# Altium schematic symbol library LCD_Dev_PCB_Project_1.SCHLIB: 24 symbols
Pins are listed as number, name and electrical type; pins without a type are passive.

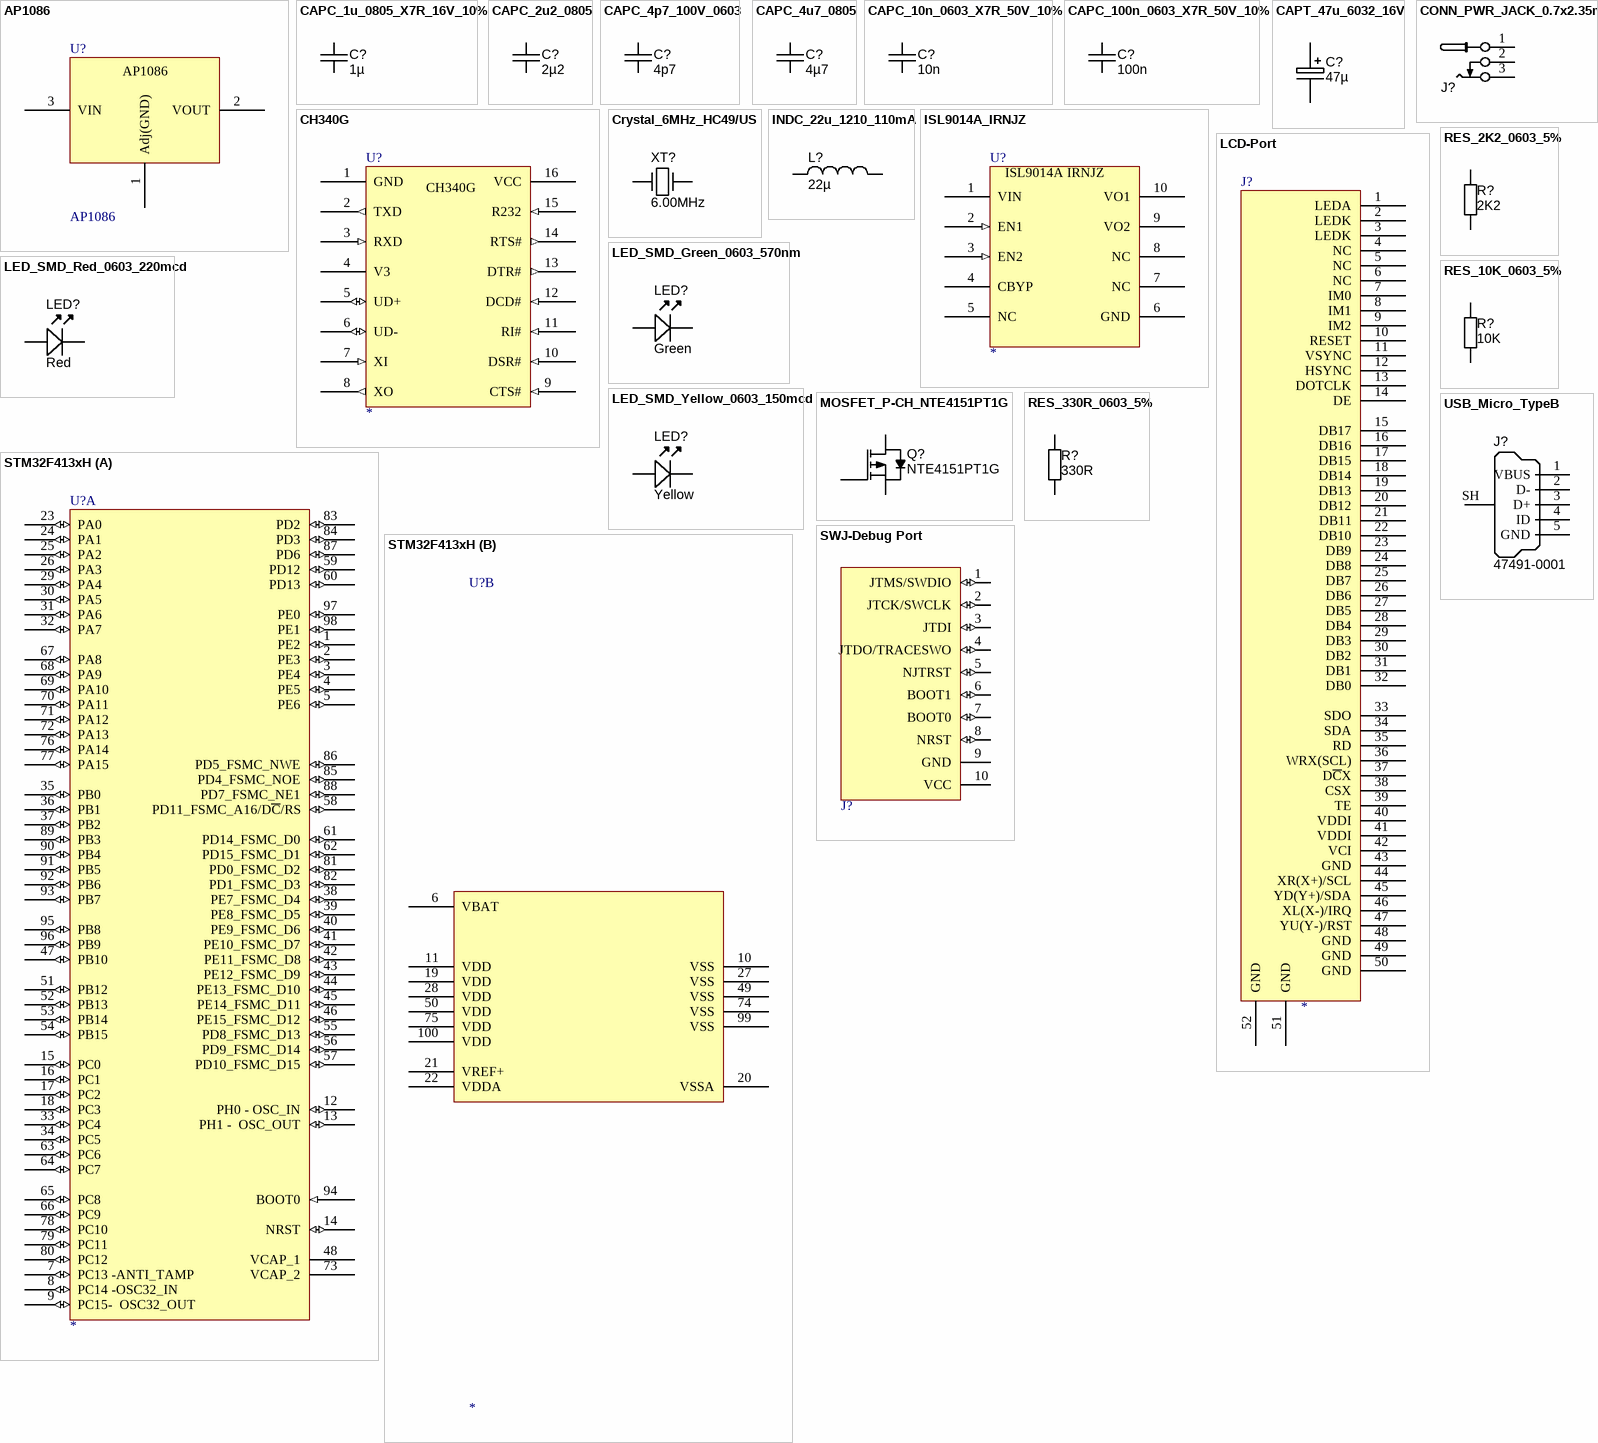
[diagram p0: symbols AP1086 to USB_Micro_TypeB]

## AP1086
designator U?
footprint TO263-3L (D-PAK/TO-263-3; 3 Leads (1 Cropped); Body 14.7 (inc. leads) x 10.2 mm (LxW max))
pins: 1 Adj(GND) (power) "Adjustable (Ground only for fixed mode)", 2 VOUT (power) "The output of the regulator. A minimum of 10uF capacitor must be connected  from this pin to ground to insure stability", 3 VIN (power) "The input pin of regulator.  Must  always be 1.4V higher than VOUT in order for the device to regulate properly."

## CAPC_1u_0805_X7R_16V_10%
designator C?, comment value 1µ  (hidden comment: approved sub OK)
Capacitor SMD Cer 1uF 10% 16V X7R 0805; Manufacturer 1: Yageo; Manufacturer Part Number 1: CC0805KKX7R7BB105; Ratings: 16V; X7R; Material: ceramic; SCDType: spec; Package / Case: 0805 (2012 metric); Tolerance: ±10%; Supplier 1: Digi-Key; Supplier Part Number 1: 311-1365-6-ND; ComponentLink1URL: http://www.yageo.com/documents/recent/UPY-GPHC_X7R_6.3V-to-50V_8.pdf; ComponentLink1Description: http://www.yageo.com/documents/recent/UPY-GPHC_X7R_6.3V-to-50V_8.pdf; RoHS 1: RoHS Compliant; Temperature Coefficient: X7R; Supplier 2: Digi-Key; Supplier Part Number 2: 399-1284-6-ND; Manufacturer 2: Kemet; Manufacturer Part Number 2: C0805C105K4RACTU; RoHS 2: RoHS Compliant; ComponentLink2URL: http://www.kemet.com/datasheets&C0805C105K4RACTU; ComponentLink2Description: http://www.kemet.com/datasheets&C0805C105K4RACTU; Supplier 3: Digi-Key; Supplier Part Number 3: 1276-1026-6-ND; Manufacturer 3: Samsung Electro-Mechanics America, Inc; Manufacturer Part Number 3: CL21B105KOFNNNE; RoHS 3: RoHS Compliant; ComponentLink3URL: http://www.samsungsem.com/servlet/FileDownload?type=spec&file=CL21B105KOFNNNE.pdf; ComponentLink3Description: http://www.samsungsem.com/servlet/FileDownload?type=spec&file=CL21B105KOFNNNE.pdf; Supplier 4: Digi-Key; Supplier Part Number 4: 445-1358-6-ND; Manufacturer 4: TDK Corporation; Manufacturer Part Number 4: C2012X7R1C105K125AA; RoHS 4: RoHS Compliant; ComponentLink4URL: http://product.tdk.com/capacitor/mlcc/en/documents/mlcc_commercial_general_en.pdf; ComponentLink4Description: http://product.tdk.com/capacitor/mlcc/en/documents/mlcc_commercial_general_en.pdf
footprint CAPC2012X135N (Chip Capacitor, Body 2.0x1.2mm, 0805, IPC Medium Density)
pins: 1, 2

## CAPC_2u2_0805
designator C?, comment value 2µ2  (hidden comment: approved sub OK)
Capacitor SMD Cer 2.2uF 10% 16V X7R 0805; Manufacturer 1: Kemet; Manufacturer Part Number 1: C0805C225K4RACTU; Ratings: 16V; X7R; SCDType: undef; Package / Case: 0805 (2012 metric); Tolerance: ±10%; Supplier 1: Digi-Key; Supplier Part Number 1: 399-3523-1-ND
footprint CAPC2012X135N (Chip Capacitor, Body 2.0x1.2mm, 0805, IPC Medium Density)
pins: 1, 2

## CAPC_4p7_100V_0603
designator C?, comment value 4p7  (hidden comment: approved sub OK)
Capacitor SMD Cer 4.7pF ±0.25pF 100V NP0 0603; Manufacturer 1: AVX Corporation; Manufacturer Part Number 1: 06031A4R7CAT2A; Ratings: 100V; NP0; SCDType: source*; Tolerance: ±0.25pF; Operating Temperature: -55°C ~ 125°C; Package / Case: 0603 (1608 metric); Supplier 1: Digi-Key; Supplier Part Number 1: 478-4992-1-ND
footprint CAPC1608X90N (Chip Capacitor, Body 1.6x0.8mm, 0603, IPC Medium Density)
pins: 1, 2

## CAPC_4u7_0805
designator C?, comment value 4µ7  (hidden comment: approved sub OK)
Capacitor SMD Cer 4.7uF 10% 16V X5R 0805; Manufacturer 1: Taiyo Yuden; Manufacturer Part Number 1: EMK212BJ475KG-T; Ratings: 16V; X5R; Material: ceramic; SCDType: spec; Package / Case: 0805 (2012 Metric); Tolerance: ±10%; Supplier 1: Digi-Key; Supplier Part Number 1: 587-1294-1-ND; Operating Temperature: -55°C ~ 85°C; Size / Dimension: 0.079" L x 0.049" W (2.00mm x 1.25mm); Thickness (Max): 0.053" (1.35mm); ComponentLink1URL: http://www.yuden.co.jp/productdata/catalog/en/mlcc01_e.pdf; ComponentLink1Description: http://www.yuden.co.jp/productdata/catalog/en/mlcc01_e.pdf; Supplier 2: Digi-Key; Supplier Part Number 2: 1276-1065-1-ND; Manufacturer 2: Samsung Electro-Mechanics America, Inc; Manufacturer Part Number 2: CL21A475KOFNNNE; RoHS 2: RoHS Compliant; ComponentLink2URL: http://www.samsungsem.com/servlet/FileDownload?type=spec&file=CL21A475KOFNNNE.pdf; ComponentLink2Description: http://www.samsungsem.com/servlet/FileDownload?type=spec&file=CL21A475KOFNNNE.pdf; Supplier 3: Digi-Key; Supplier Part Number 3: 399-8101-1-ND; Manufacturer 3: Kemet; Manufacturer Part Number 3: C0805C475K4PACTU; RoHS 3: RoHS Compliant; ComponentLink3URL: http://capacitoredge.kemet.com/capedge2/DataSheet?pn=C0805C475K4PACTU; ComponentLink3Description: http://capacitoredge.kemet.com/capedge2/DataSheet?pn=C0805C475K4PACTU; Supplier 4: Digi-Key; Supplier Part Number 4: 490-7215-1-ND; Manufacturer 4: Murata Electronics North America; Manufacturer Part Number 4: GRM21BR61C475MA88L; RoHS 4: RoHS Compliant; ComponentLink4URL: http://psearch.murata.com/capacitor/product/GRM21BR61C475MA88#.pdf; ComponentLink4Description: http://psearch.murata.com/capacitor/product/GRM21BR61C475MA88#.pdf; Supplier 5: Digi-Key; Supplier Part Number 5: 445-7640-1-ND; Manufacturer 5: TDK Corporation; Manufacturer Part Number 5: C2012X5R1C475K125AC; RoHS 5: RoHS Compliant; ComponentLink5URL: http://product.tdk.com/capacitor/mlcc/en/documents/mlcc_commercial_general_en.pdf; ComponentLink5Description: http://product.tdk.com/capacitor/mlcc/en/documents/mlcc_commercial_general_en.pdf; RoHS 1: RoHS Compliant
footprint CAPC2012X135N (Chip Capacitor, Body 2.0x1.2mm, 0805, IPC Medium Density)
pins: 1, 2

## CAPC_10n_0603_X7R_50V_10%
designator C?, comment value 10n  (hidden comment: approved sub OK)
Capacitor SMD Cer 10nF 10% 50V X7R 0603; Manufacturer 1: TDK Corporation; Manufacturer Part Number 1: C1608X7R1H103K; Ratings: 50V; X7R; SCDType: spec; Material: ceramic; Tolerance: ±10%; Package / Case: 0603 (1608 metric); Manufacturer 2: AVX Corporation; Manufacturer Part Number 2: 06035C103KAT2A; Supplier 1: Digi-Key; Supplier Part Number 1: 445-1311-1-ND; ComponentLink1URL: http://product.tdk.com/capacitor/mlcc/en/documents/mlcc_commercial_general_en.pdf; ComponentLink1Description: http://product.tdk.com/capacitor/mlcc/en/documents/mlcc_commercial_general_en.pdf; Supplier 2: Digi-Key; Supplier Part Number 2: 478-1227-1-ND; ComponentLink2URL: http://www.avx.com/docs/Catalogs/cx7r.pdf; ComponentLink2Description: http://www.avx.com/docs/Catalogs/cx7r.pdf
footprint CAPC1608X90N (Chip Capacitor, Body 1.6x0.8mm, 0603, IPC Medium Density)
pins: 1, 2

## CAPC_100n_0603_X7R_50V_10%
designator C?, comment value 100n  (hidden comment: approved sub OK)
Capacitor SMD Cer 100nF 10% 50V X7R 0603; Manufacturer 1: AVX Corporation; Manufacturer Part Number 1: 06035C104KAT2A; Ratings: 50V; X7R; SCDType: spec; Material: ceramic; Tolerance: ±10%; Package / Case: 0603 (1608 Metric); Supplier 1: Digi-Key; Supplier Part Number 1: 478-5052-1-ND; ComponentLink1URL: http://www.avx.com/docs/Catalogs/cx7r.pdf; ComponentLink1Description: http://www.avx.com/docs/Catalogs/cx7r.pdf; Supplier 2: Digi-Key; Supplier Part Number 2: 445-1314-1-ND; Manufacturer 2: TDK Corporation; Manufacturer Part Number 2: C1608X7R1H104K; ComponentLink2URL: http://product.tdk.com/capacitor/mlcc/en/documents/mlcc_commercial_general_en.pdf; ComponentLink2Description: http://product.tdk.com/capacitor/mlcc/en/documents/mlcc_commercial_general_en.pdf
footprint CAPC1608X90N (Chip Capacitor, Body 1.6x0.8mm, 0603, IPC Medium Density)
pins: 1, 2

## CAPT_47u_6032_16V
designator C?, comment 47µ
Capacitor SMD Tantalum 47uF 10% 16V 6032-28; Manufacturer 1: Vishay/Sprague; Manufacturer Part Number 1: TR3C476K016C0300; SCDType: undef; Package / Case: EIA 535BAAC size C; Ratings: 16V; Tolerance: ±10%; Material: Tantalum; Supplier 1: Digi-Key; Supplier Part Number 1: 718-1332-1-ND; Value: 47µ
footprint CAPMP6032X280N (Capacitor, polarized, Molded Body, EIA 535BAAC size C; 6.00mm L X 3.20mm W X 2.80mm H)
pins: 1, 2

## CH340G
designator U?
USB bus conversion chip
footprint SOP16
pins: 1 GND (power) "Public ground, ground connection for USB", 2 TXD (out) "Transmit asynchronous data output", 3 RXD (in) "Receive asynchronous data input, built-in configurable  pull-up and pull-down resistor", 4 V3 (power) "Connect to VCC to input external power when 3.3V power  supply, connect to 0.1uF decoupling capacitor when 5V  power supply", 5 UD+ (io) "USB signal", 6 UD- (io) "USB signal", 7 XI (in) "Input of crystal oscillator, connect to crystal  and capacitor", 8 XO (out) "Output of crystal oscillator, connect to crystal and capacitor", 9 CTS# (in) "MODEM liaison input signal, clear to send, active  low(high)", 10 DSR# (in) "MODEM liaison input signal, data set ready, active  low(high)", 11 RI# (in) "MODEM liaison input signal, ring indicator , active  low(high)", 12 DCD# (in) "MODEM liaison input signal, data carrier detect, active  low(high)", 13 DTR# (out) "MODEM liaison output signal, data terminal ready, active  low(high)", 14 RTS# (out) "MODEM liaison output signal, request to send, active  low(high)", 15 R232 (in) "Assistant RS232 enable, active high,  built-in pull-down resistor", 16 VCC (power) "Positive power input port, requires an external 0.1uF power  decoupling capacitor"

## CONN_PWR_JACK_0.7x2.35mm
designator J?  (value not drawn)
Connector Power THT 0.7mm ID x 2.35mm OD; Manufacturer 1: Kobiconn; Manufacturer Part Number 1: 163-4307-E; Value: 0.7mm ID, 2.35mm OD; SCDType: undef; Category: Connectors; Mounting Type: Through Hole; Package / Case: PCB mount; HELPURL: http://www.mouser.com/ProductDetail/Kobiconn/163-4307-E/?qs=FrCfMICDGNKiKC02lNlE3g%3D%3D
footprint CONN_PWR_JACK_0.7x2.35mm (Power Connector, 0.7mm ID, 2.35mm OD)
pins: 1 POS, 2 NC, 3 NEG

## Crystal_6MHz_HC49/US
designator XT?, comment 6.00MHz
Resonator Ceramic 6.00 MHz 30ppm; Manufacturer 1: CTS-Frequency Controls; Manufacturer Part Number 1: ATS060BSM-1; Frequency: 6MHz; Frequency Stability: ±50ppm; Load Capacitance: 18pF; Operating Mode: Fundamental; Parameter Name: 0.169" (4.30mm); SCDType: spec; Package / Case: HC49/US-SM; Ratings: 6.00 MHz; Supplier 1: Digi-Key; Supplier Part Number 1: CTX882CT-ND; Type: MHz Crystal; Frequency Tolerance: ±30ppm; Operating Temperature: -20°C ~ 70°C; Mounting Type: Surface Mount; Size / Dimension: 0.437" L x 0.190" W (11.10mm x 4.83mm); ComponentLink1URL: http://www.ctscorp.com/components/Datasheets/008-0309-0.pdf; ComponentLink1Description: http://www.ctscorp.com/components/Datasheets/008-0309-0.pdf
footprint CRYSTAL_HC49-US-SM (SMD Crystal HC49/US-SM package)
pins: 1 IN, 2 OUT

## INDC_22u_1210_110mA
designator L?, comment value 22µ  (hidden comment: SMD-322522)
Inductor 22uH 110mA 1210 SMD chip; Manufacturer 1: 3L; Manufacturer Part Number 1: SMD-322522-220K; Ratings: 110 mAdc; Tolerance: ±10%; Type: Ferrite Core; DC Resistance (DCR): 3.7 Ohm; Q @ Freq: 30 @ 2.52MHz; Frequency - Self Resonant: 20MHz; Frequency - Test: 2.52MHz; SCDType: source; Package / Case: 1210 (3225 Metric); Operating Temperature: -20°C ~ 80°C; Supplier 1: APlus Products; Supplier Part Number 1: SMD-322522-220K
footprint INDM3225X240N (Molded Inductor, 2-Leads, Body 3.2x2.5mm, IPC Medium Density)
pins: 1, 2

## ISL9014A_IRNJZ
designator U?
ISL9014A IRNJZ, Dual LDO, 3.3V and 2.8V, 300mA on both outputs
footprint 10LD3X3DFN (10 PIN DFPNL (DFN) Body 3x3mm, Pitch 0.50mm, IPC Medium Density)
pins: 1 VIN (power) "2.3-6.5V", 2 EN1 (in) "LDO-1 Enable.", 3 EN2 (in) "LDO-2 Enable.", 4 CBYP (power) "Reference Bypass Capacitor Pin", 5 NC "No Connection", 6 GND (power) "Connect to system ground. Connect to PCB Ground plane.", 7 NC "No Connection", 8 NC "No Connection", 9 VO2 (power) "LDO-2 Output: 2.8V 300mA", 10 VO1 (power) "LDO-1 Output: 3.3V 300mA"
text: ISL9014A IRNJZ

## LCD-Port
designator J?
3.5”TFT LCD Display Port (i80/6800/FSMC etc)
footprint ER-CON50HT-1 (50 pins 0.5mm pitch SMD horizontal type FPC ZIF)
pins: 1 LEDA (power) "Anode for LED backlighting", 2 LEDK (power) "Cathode for LED backlighting", 3 LEDK (power) "Cathode for LED backlighting", 4 NC "NO Connect", 5 NC "NO Connect", 6 NC "NO Connect", 7 IM0 "Select Interface Mode", 8 IM1 "Select Interface Mode", 9 IM2 "Select Interface Mode", 10 RESET "Reset Pin. Initialize the chip with a low input.", 11 VSYNC "Frame Synchronizing Signal For RGB Interface. Fix to DGND level when not in use.", 12 HSYNC "Line Synchronizing Signal For RGB Interface. Fix to DGND level when not in use.", 13 DOTCLK "Dot Clock Signal For RGB Interface. Fix to IOVCC level when not in use.", 14 DE "Data Enable Signal For RGB Interface. Fix to DGND level when not in use.", 15 DB17 "DATA BUS. Fix to DGND level when not in use.", 16 DB16 "DATA BUS. Fix to DGND level when not in use.", 17 DB15 "DATA BUS. Fix to DGND level when not in use.", 18 DB14 "DATA BUS. Fix to DGND level when not in use.", 19 DB13 "DATA BUS. Fix to DGND level when not in use.", 20 DB12 "DATA BUS. Fix to DGND level when not in use.", 21 DB11 "DATA BUS. Fix to DGND level when not in use.", 22 DB10 "DATA BUS. Fix to DGND level when not in use.", 23 DB9 "DATA BUS. Fix to DGND level when not in use.", 24 DB8 "DATA BUS. Fix to DGND level when not in use.", 25 DB7 "DATA BUS. Fix to DGND level when not in use.", 26 DB6 "DATA BUS. Fix to DGND level when not in use.", 27 DB5 "DATA BUS. Fix to DGND level when not in use.", 28 DB4 "DATA BUS. Fix to DGND level when not in use.", 29 DB3 "DATA BUS. Fix to DGND level when not in use.", 30 DB2 "DATA BUS. Fix to DGND level when not in use.", 31 DB1 "DATA BUS. Fix to DGND level when not in use.", 32 DB0 "DATA BUS. Fix to DGND level when not in use.", 33 SDO "Serial Output Signal. Leave the pin open when not in use.", 34 SDA "Serial interface : Serial input or serial data input/output bi-direction pin. Fix to DGND level when not in use.", 35 RD "Parallel interface:Read execution control pin. Fix to IOVCC when not in use.", 36 WRX(SCL) "Parallel interface:Write execution control pin ;  Serial interface :SCL pin as Serial Clock when operates in the serial interface  Fix to IOVCC when not in use.", 37 D~{C}X "Data/Command Selection pin. Fix to IOVCC when not in use.", 38 CSX "Chip Select Signal. Fix to IOVCC when not in use.", 39 TE "Tearing effect out pin synchronize MPU to frame writing. Leave the pin open when not in use.", 40 VDDI "Power Supply to the interface pins ,provide with 2.8V", 41 VDDI "Power Supply to the interface pins ,provide with 2.8V", 42 VCI "Logic power ,provide with 2.8V", 43 GND (power) "Ground", 44 XR(X+)/SCL "Resistive touch panel output/ Capacitive touch SCL signal,I2C interface.", 45 YD(Y+)/SDA "Resistive touch panel output/ Capacitive touch SDA signal, I2C interface", 46 XL(X-)/IRQ "Resistive touch panel output /Capacitive touch pen interrupt signal when low.", 47 YU(Y-)/RST "Resistive touch panel output/ Capacitive touch reset signal when low.", 48 GND (power) "Ground", 49 GND (power) "Ground", 50 GND (power) "Ground", 51 GND (power) "Housing locker GND", 52 GND (power) "Housing locker GND"

## LED_SMD_Green_0603_570nm
designator LED?, comment Green
LED 0603 SMD Green 570nm 50mcd 20mA; Manufacturer 1: Kingbright Company LLC; Manufacturer Part Number 1: APT1608CGCK; Material: AlGaInP; Ratings: 20mcd min; 50 mcd typ; 570 nm; Voltage - Forward (Vf) Typ: 2.1V; Viewing Angle: 120°; Lens Style/Size: Rectangle with Flat Top, 1.1mm x 0.8mm; Voltage - Forward (Vf) @ 10mA: 2.0V; SCDType: source; Wavelength - Peak: 574nm; Lens Type: Clear; Package / Case: 0603 (1608 metric); Color: Green; Current - Test: 20mA; Supplier 1: Digi-Key; Supplier Part Number 1: 754-1116-1-ND; RoHS 1: RoHS Compliant; Wavelength - Dominant: 570nm; ComponentLink1URL: http://www.us.kingbright.com/images/catalog/SPEC/APT1608CGCK.pdf; ComponentLink1Description: http://www.us.kingbright.com/images/catalog/SPEC/APT1608CGCK.pdf
footprint LED-0603-GREEN
pins: A, K

## LED_SMD_Red_0603_220mcd
designator LED?, comment Red
LED 0603 SMD Hyper Red 630nm 220mcd 20mA; Manufacturer 1: Kingbright Company LLC; Manufacturer Part Number 1: APT1608SURCK; Material: AlGaInP on GaAs; Ratings: 220 mcd; 630 nm; Voltage - Forward (Vf) Typ: 1.95V; Voltage - Forward (Vf) @ 10mA: 1.9V; SCDType: source; Package / Case: 0603 (1608 metric); Supplier 1: Digi-Key; Supplier Part Number 1: 754-1123-1-ND; ComponentLink1URL: http://www.us.kingbright.com/images/catalog/SPEC/APT1608SURCK.pdf; ComponentLink1Description: http://www.us.kingbright.com/images/catalog/SPEC/APT1608SURCK.pdf
footprint LED-0603-RED
pins: A, K

## LED_SMD_Yellow_0603_150mcd
designator LED?, comment Yellow
LED 0603 SMD Yellow 590nm 150mcd 20mA; Manufacturer 1: Kingbright Company LLC; Manufacturer Part Number 1: APT1608SYCK; Material: AlGaInP on GaAs; Ratings: 150 mcd; 590 nm; Voltage - Forward (Vf) Typ: 2V; Voltage - Forward (Vf) @ 10mA: 1.95V; SCDType: source; Package / Case: 0603 (1608 metric); Supplier 1: Digi-Key; Supplier Part Number 1: 754-1124-1-ND; ComponentLink1URL: http://www.us.kingbright.com/images/catalog/SPEC/APT1608SYCK.pdf; ComponentLink1Description: http://www.us.kingbright.com/images/catalog/SPEC/APT1608SYCK.pdf
footprint LED-0603-YELLOW
pins: A, K

## MOSFET_P-CH_NTE4151PT1G
designator Q?, comment Manufacturer Part Number 1: NTE4151PT1G  (hidden comment: P-Channel)
MOSFET SMD P-CH 20V 0.76A 0.313W SOT523F; Manufacturer 1: ON Semiconductor; Rds On (Max) @ Id, Vgs: 360 mOhm @ 350mA, 4.5V; Ratings: 20V; 760mA; 313mW; SCDType: source; Value: P-Channel; Package / Case: SC-89, SOT523F; Supplier 1: Digi-Key; Supplier Part Number 1: NTE4151PT1GOSCT-ND; ComponentLink1URL: http://www.onsemi.com/pub_link/Collateral/NTA4151P-D.PDF; ComponentLink1Description: http://www.onsemi.com/pub_link/Collateral/NTA4151P-D.PDF
footprint SOT523F (3 Lead SC89; EIAJ-SC89; SOT523F)
pins: 1 G, 2 S, 3 D

## RES_2K2_0603_5%
designator R?, comment value 2K2  (hidden comment: Thick Film)
Resistor SMD chip 2.2k Ohm 0.1W 5% 0603; Manufacturer 1: Yageo; Manufacturer Part Number 1: RC0603JR-072K2L; Ratings: 1/10 W; SCDType: spec; Temperature Coefficient: ±100ppm/°C; Package / Case: 0603 (1608 metric); Tolerance: ±5%; Material: Thick Film; Manufacturer 2: Samsung Electro-Mechanics America, Inc; Manufacturer Part Number 2: RC1608J222CS; Supplier 1: Digi-Key; Supplier Part Number 1: 311-2.2KGRDKR-ND; ComponentLink1URL: http://www.yageo.com/documents/recent/PYu-RC0603_51_RoHS_L_4.pdf; ComponentLink1Description: http://www.yageo.com/documents/recent/PYu-RC0603_51_RoHS_L_4.pdf; Supplier 2: Digi-Key; Supplier Part Number 2: 1276-5070-6-ND; ComponentLink2URL: http://www.samsungsem.com/servlet/FileDownload?filename=productcatalog/pdf/Chip_Resistor.pdf; ComponentLink2Description: http://www.samsungsem.com/servlet/FileDownload?filename=productcatalog/pdf/Chip_Resistor.pdf; RoHS 1: RoHS Compliant; RoHS 2: RoHS Compliant; Supplier 3: Digi-Key; Supplier Part Number 3: RMCF0603JT2K20DKR-ND; Manufacturer 3: Stackpole Electronics Inc; Manufacturer Part Number 3: RMCF0603JT2K20; RoHS 3: RoHS Compliant; ComponentLink3URL: http://www.seielect.com/Catalog/SEI-RMCF_RMCP.pdf; ComponentLink3Description: http://www.seielect.com/Catalog/SEI-RMCF_RMCP.pdf; Supplier 4: Digi-Key; Supplier Part Number 4: RHM2.2KCGDKR-ND; Manufacturer 4: Rohm Semiconductor; Manufacturer Part Number 4: MCR03ERTJ222; RoHS 4: RoHS Compliant; ComponentLink4URL: http://rohmfs.rohm.com/en/products/databook/datasheet/passive/resistor/chip_resistor/mcr_g.pdf; ComponentLink4Description: http://rohmfs.rohm.com/en/products/databook/datasheet/passive/resistor/chip_resistor/mcr_g.pdf; Supplier 5: Digi-Key; Supplier Part Number 5: P2.2KGDKR-ND; Manufacturer 5: Panasonic Electronic Components; Manufacturer Part Number 5: ERJ-3GEYJ222V; RoHS 5: RoHS Compliant; ComponentLink5URL: http://industrial.panasonic.com/www-cgi/jvcr13pz.cgi?E+PZ+3+AOA0001+ERJ3GEYJ222V+7+WW; ComponentLink5Description: http://industrial.panasonic.com/www-cgi/jvcr13pz.cgi?E+PZ+3+AOA0001+ERJ3GEYJ222V+7+WW
footprint RESC1608X55N (Chip Resistor, Body 1.6x0.8mm, 0603, IPC Medium Density)
pins: 1, 2

## RES_10K_0603_5%
designator R?, comment value 10K  (hidden comment: Thick Film)
Resistor SMD chip 10k Ohm 0.1W 5% 0603; Manufacturer 1: Yageo; Manufacturer Part Number 1: RC0603JR-0710KL; Ratings: 1/10 W; SCDType: spec; Package / Case: 0603 (1608 metric); Tolerance: ±5%; Manufacturer 2: Vishay Dale; Manufacturer Part Number 2: CRCW060310K0JNEA; Supplier 1: Digi-Key; Supplier Part Number 1: 311-10KGRCT-ND; ComponentLink1URL: http://www.yageo.com/documents/recent/PYu-RC0603_51_RoHS_L_4.pdf; ComponentLink1Description: http://www.yageo.com/documents/recent/PYu-RC0603_51_RoHS_L_4.pdf; Supplier 2: Digi-Key; Supplier Part Number 2: 541-10KGCT-ND; ComponentLink2URL: http://www.vishay.com/doc?20035; ComponentLink2Description: http://www.vishay.com/doc?20035; Material: Thick Film
footprint RESC1608X55N (Chip Resistor, Body 1.6x0.8mm, 0603, IPC Medium Density)
pins: 1, 2

## RES_330R_0603_5%
designator R?, comment value 330R  (hidden comment: Thick Film)
Resistor SMD chip 330 Ohm 0.1W 5% 0603; Manufacturer 1: Vishay Dale; Manufacturer Part Number 1: CRCW0603330RJNEA; Ratings: 1/10 W; SCDType: spec; Package / Case: 0603 (1608 metric); Tolerance: ±5%; Supplier 1: Digi-Key; Supplier Part Number 1: 541-330GCT-ND; ComponentLink1URL: http://www.vishay.com/doc?20035; ComponentLink1Description: http://www.vishay.com/doc?20035; Manufacturer 2: Yageo; Manufacturer Part Number 2: RC0603JR-07330RL; Material: Thick Film; Supplier 2: Digi-Key; Supplier Part Number 2: 311-330GRCT-ND; ComponentLink2URL: http://www.yageo.com/documents/recent/PYu-RC0603_51_RoHS_L_4.pdf; ComponentLink2Description: http://www.yageo.com/documents/recent/PYu-RC0603_51_RoHS_L_4.pdf
footprint RESC1608X55N (Chip Resistor, Body 1.6x0.8mm, 0603, IPC Medium Density)
pins: 1, 2

## STM32F413xH
designator U?
STM32F413VHT symbol for FSMC application with designated FSMC relevant pins
footprint LQFP100_STM32F4 (TSQFP, 100-Leads, Body 14.00x14.00mm, Pitch 0.50mm, IPC Medium Density)
part A pins: 1 PE2 (io), 2 PE3 (io), 3 PE4 (io), 4 PE5 (io), 5 PE6 (io), 7 PC13 -ANTI_TAMP (io), 8 PC14 -OSC32_IN (io), 9 PC15-  OSC32_OUT (io), 12 PH0 - OSC_IN (io), 13 PH1 -  OSC_OUT (io), 14 NRST (io), 15 PC0 (io), 16 PC1 (io), 17 PC2 (io), 18 PC3 (io), 23 PA0 (io), 24 PA1 (io), 25 PA2 (io), 26 PA3 (io), 29 PA4 (io), 30 PA5 (io), 31 PA6 (io), 32 PA7 (io), 33 PC4 (io), 34 PC5 (io), 35 PB0 (io), 36 PB1 (io), 37 PB2 (io), 38 PE7_FSMC_D4 (io), 39 PE8_FSMC_D5 (io), 40 PE9_FSMC_D6 (io), 41 PE10_FSMC_D7 (io), 42 PE11_FSMC_D8 (io), 43 PE12_FSMC_D9 (io), 44 PE13_FSMC_D10 (io), 45 PE14_FSMC_D11 (io), 46 PE15_FSMC_D12 (io), 47 PB10 (io), 48 VCAP_1 (power), 51 PB12 (io), 52 PB13 (io), 53 PB14 (io), 54 PB15 (io), 55 PD8_FSMC_D13 (io), 56 PD9_FSMC_D14 (io), 57 PD10_FSMC_D15 (io), 58 PD11_FSMC_A16/D~{C}/RS (io), 59 PD12 (io), 60 PD13 (io), 61 PD14_FSMC_D0 (io), 62 PD15_FSMC_D1 (io), 63 PC6 (io), 64 PC7 (io), 65 PC8 (io), 66 PC9 (io), 67 PA8 (io), 68 PA9 (io), 69 PA10 (io), 70 PA11 (io), 71 PA12 (io), 72 PA13 (io), 73 VCAP_2 (power), 76 PA14 (io), 77 PA15 (io), 78 PC10 (io), 79 PC11 (io), 80 PC12 (io), 81 PD0_FSMC_D2 (io), 82 PD1_FSMC_D3 (io), 83 PD2 (io), 84 PD3 (io), 85 PD4_FSMC_NOE (io), 86 PD5_FSMC_NWE (io), 87 PD6 (io), 88 PD7_FSMC_NE1 (io), 89 PB3 (io), 90 PB4 (io), 91 PB5 (io), 92 PB6 (io), 93 PB7 (io), 94 BOOT0 (in), 95 PB8 (io), 96 PB9 (io), 97 PE0 (io), 98 PE1 (io)
part B pins: 6 VBAT (power), 10 VSS (power), 11 VDD (power), 19 VDD (power), 20 VSSA (power), 21 VREF+ (power), 22 VDDA (power), 27 VSS (power), 28 VDD (power), 49 VSS (power), 50 VDD (power), 74 VSS (power), 75 VDD (power), 99 VSS (power), 100 VDD (power)

## SWJ-Debug Port
designator J?  (value not drawn)
10 pin Serial Wire JTAG Debug Port
footprint SWJ-DP connector (10 pin SWJ-DP PCB connector)
pins: 1 JTMS/SWDIO (io) "JTAG Test Mode Selection or Serial Wire Data Input/Output", 2 JTCK/SWCLK (io) "JTAG Test Clock or  Serial Wire Clock", 3 JTDI (io) "JTAG Test Data Input", 4 JTDO/TRACESWO (io) "JTAG Test Data Output or TRACESWO if async trace is enabled", 5 NJTRST (io) "JTAG Test nReset", 6 BOOT1 (io), 7 BOOT0 (io), 8 NRST (io) "BOOT0", 9 GND (power), 10 VCC (power)

## USB_Micro_TypeB
designator J?, comment Manufacturer Part Number 1: 47491-0001  (hidden comment: USB Micro Type B)
Connector SMD USB Micro Type B middle mount; Manufacturer 1: Molex Inc; SCDType: undef; Package / Case: SMD; Supplier 1: Digi-Key; Supplier Part Number 1: WM17142CT-ND
footprint USB_Micro-B_Molex_SMD
pins: 1 VBUS, 2 D-, 3 D+, 4 ID, 5 GND, SH Shell